# Altium schematic symbol library Composants_Projet_2409.SchLib: 17 symbols
Pins are listed as number, name and electrical type; pins without a type are passive.

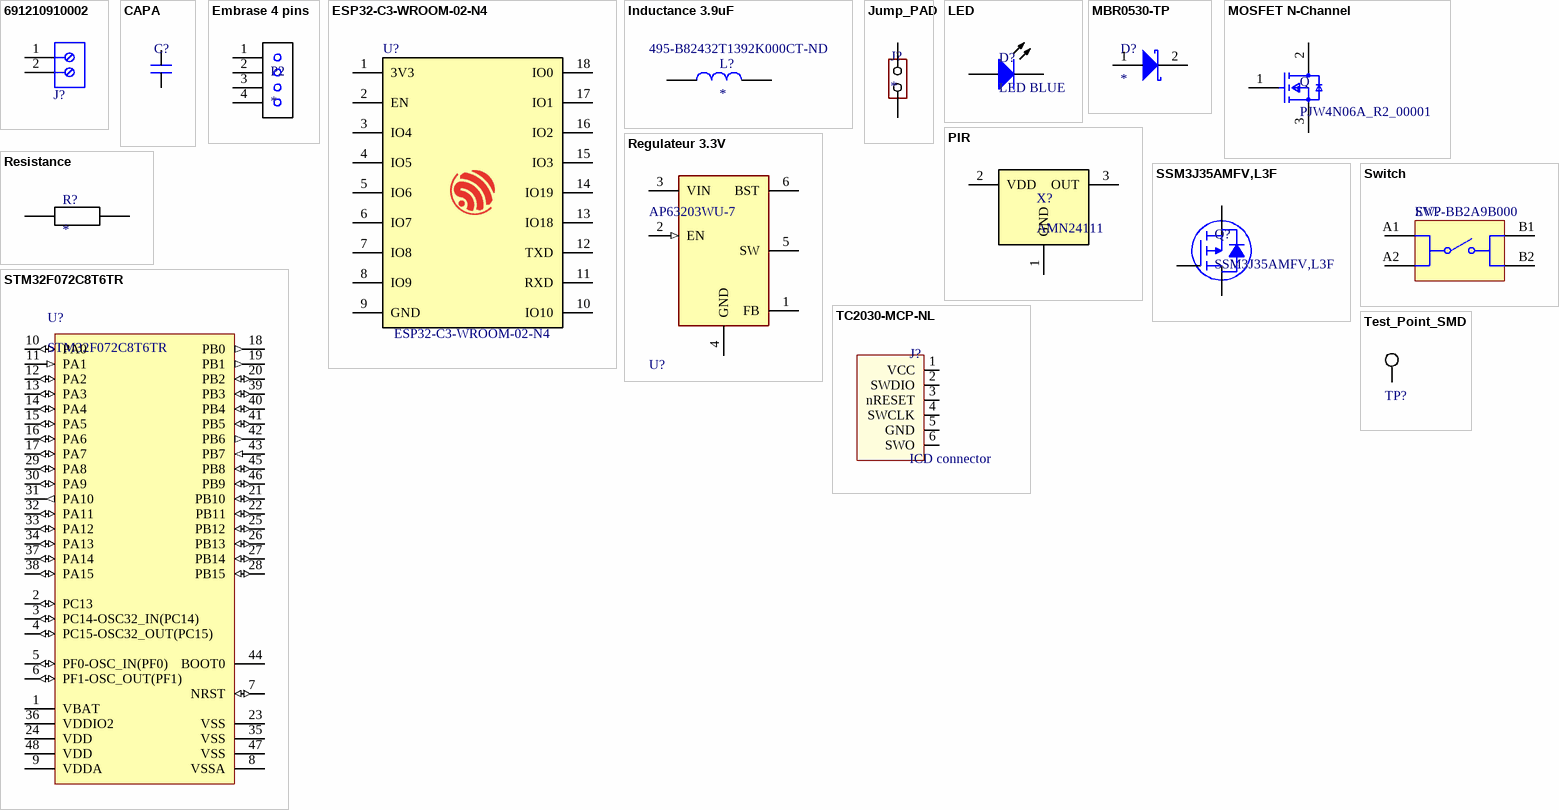
[diagram p0: symbols 691210910002 to Test_Point_SMD]

## 691210910002
designator J?  (value not drawn)
WR-TBL Series 2109 Horizontal Entry, THT, pitch 2.54mm, 2p; Manufacturer: Wurth Elektronik; Modularity: No; Rated Current: 6A; Working Voltage: 150V; ComponentLink1Description: Website Link; ComponentLink1URL: https://www.we-online.com/redexpert/article/691210910002?ad; ComponentLink2Description: Datasheet Link; ComponentLink2URL: https://www.we-online.com/redexpert/spec/691210910002?ad; Manufacturer Part Number: 691210910002; Category: Terminal Blocks; Match Code: WR-TBL; Mount: Through Hole; Operating Temperature Max: 105°C; Operating Temperature Min: -40°C; Packaging: Box; Application: Rising Cage Clamp; Number of Pins: 2; Number of Rows: 1; Orientation: Horizontal; Pitch: 2.54mm
footprint 691210910002
pins: 1, 2

## CAPA
designator C?
Tension: *
footprint WCAP-CSGP_0805_L2W1.25H0.8_Wave (Ceramic Capacitors, body 2x1.25mm)
pins: 1 +, 2 -

## Embrase 4 pins
designator P2
pins: 1 VCC, 2 VCC, 3 VCC, 4 VCC

## ESP32-C3-WROOM-02-N4
designator U?
WiFi Modules (802.11) (Engineering Samples) SMD module, ESP32-C3, 4MB SPI flash, PCB antenna, -40 C +85 C; Manufacturer_Name: Espressif Systems; Geometry.Height: 3.35mm; Manufacturer_Part_Number: ESP32-C3-WROOM-02-N4; Mouser Part Number: 356-ESP32C3WROOM02N4; Mouser Price/Stock: https://www.mouser.co.uk/ProductDetail/Espressif-Systems/ESP32-C3-WROOM-02-N4?qs=stqOd1AaK7%2FqjTZKEOgfUg%3D%3D; Arrow Part Number: *; Arrow Price/Stock: *; Datasheet Link: https://www.mouser.ch/datasheet/2/891/Espressif_ESP32_C3_WROOM_02-2006871.pdf
footprint ESP32C3WROOM02N4
pins: 1 3V3, 2 EN, 3 IO4, 4 IO5, 5 IO6, 6 IO7, 7 IO8, 8 IO9, 9 GND, 10 IO10, 11 RXD, 12 TXD, 13 IO18, 14 IO19, 15 IO3, 16 IO2, 17 IO1, 18 IO0

## Inductance 3.9uF
designator L?  Supplier Part Number 1: 495-B82432T1392K000CT-ND
FIXED IND 3.9UH 850MA 200 MOHM; MF: EPCOS; MP: B82432T1392K000; SnapEDA_Link: https://www.snapeda.com/parts/B82432T1392K000/EPCOS/view-part/?ref=snap; Package: 1812 EPCOS (TDK); Value: *; Check_prices: https://www.snapeda.com/parts/B82432T1392K000/EPCOS/view-part/?ref=eda; Supplier 1: Digi-Key
footprint Inductance 3.9uF
pins: 1, 2

## Jump_PAD
designator J?
jump pad smd
footprint Jump_PAD
pins: 1, 2

## LED
designator D?, comment LED BLUE
footprint LED_SMD_B_AND_R
pins: 1 K, 2 A

## MBR0530-TP
designator D?
footprint ONSC-SOD-123-2-425-04_V (SOD, 2-Leads, Body 2.69x1.6mm)
pins: 1 A, 2 C

## MOSFET N-Channel
designator Q, comment PJW4N06A_R2_00001
pins: 1 G, 2 D, 3 S

## PIR
designator X?, comment AMN24111
Capteur PIR (infrarouge passif) 394po (10m) 32,8pi Lentille longue distance, noire Cylindre
pins: 1 GND, 2 VDD, 3 OUT

## Regulateur 3.3V
designator U?, comment AP63203WU-7
IC REG BUCK 3.3V 2A TSOT26; Manufacturer: Diodes Inc.; Output Type: Fixed; Min Supply Voltage: 3.8V; Number Of Outputs: 1; Max Junction Temp: +160°C; Nominal Supply Current: 22uA; Standoff Height: 0.01mm; Switching Frequency: 1.1MHz; Max Supply Voltage: 32V; ComponentLink2Description: Datasheet; Device Class L1: Integrated Circuits (ICs); Temperature: to +160°C; Device Class L3: Voltage Regulators - Switching; RoHS: TRUE; Octopart: https://octopart.com/ap63203wu-7-diodes+inc.-98099550; Output Voltage: 3.3V; Lead Free: Yes; ComponentLink2URL: https://www.diodes.com/assets/Datasheets/AP63200-AP63201-AP63203-AP63205.pdf; Digikey Description: IC REG BUCK 3.3V 2A TSOT26; Footprint Url: https://www.diodes.com/assets/Package-Files/TSOT26.pdf; Ambient Temperature Range High: +85°C; Height: 1mm; Automotive: No; Temperature Range High: +160°C; Switching Topology: Buck; Output Current: 2A; Package: TSOT26; Category: IC; Mouser Description: AP63203 Series 3.3 V 2 A SMT Fixed Low IQ Synchronous Buck - TSOT-26; Device Class L2: Power Management ICs; Ambient Temperature Range Low: -40°C; Manufacturer Part Number: AP63203WU-7
footprint FP-TSOT26-MFG
pins: 1 FB, 2 EN (in), 3 VIN (power), 4 GND (power), 5 SW (power), 6 BST

## Resistance
designator R?
footprint WRIS-PSMB_0805_L2W1.25H0.35 (Metal Plate Resistor, SMT, body size 2x1.25mm)
pins: 1, 2

## SSM3J35AMFV,L3F
designator Q?
Canal P 20 V 250mA (Ta) 150mW (Ta) Montage en surface VESM
footprint SSM3J35AMFV (SOT23, 3-Leads, Body 1,20x1,20mm, Pitch 0,40mm, IPC Medium Density)
pins: 1 G, 2 S, 3 D

## STM32F072C8T6TR
designator U?
ARM Cortex-M0 32-bit MCU, 64 KB Flash, 16 KB Internal RAM, 37 I/Os, 48-Pin LQFP, -40 to 85 degC, Tray; Manufacturer: STMicroelectronics; Operating Frequency(F) (Processor speed) (MHz): 48; FLASH Size (Prog) (kB): 64; I/Os (High Current): 37; D/A Converter: 1; Internal RAM Size (kB): 16; Supply Voltage(Vcc) min (V): 2; Package Reference: LQFP48; DatasheetVersion: Rev. 5; Core: ARM Cortex-M0; ComponentLink1Description: Manufacturer URL; ComponentLink1URL: http://www.st.com/; Packing: Tray; Mounting Technology: Surface Mount; Package Description: 48-Pin Low Profile Quad Flat Package, Body 7 x 7 mm, Pitch 0.5 mm; ComponentLink2URL: http://www.st.com/st-web-ui/static/active/en/resource/technical/document/datasheet/DM00090510.pdf; ComponentLink2Description: Datasheet; PartNumber: STM32F072C8T6
footprint LQFP48-7x7mm
pins: 1 VBAT (power) "Backup power supply", 2 PC13 (io) "PC13/WKUP2,RTC_TAMP1,RTC_TS,RTC_OUT", 3 PC14-OSC32_IN(PC14) (io) "PC14-OSC32_IN(PC14)/OSC32_IN", 4 PC15-OSC32_OUT(PC15) (io) "PC15-OSC32_OUT(PC15)/OSC_OUT", 5 PF0-OSC_IN(PF0) (io) "PF0-OSC_IN(PF0)/CRS_SYNC/OSC_IN", 6 PF1-OSC_OUT(PF1) (io) "PF1-OSC_OUT(PF1)/OSC_OUT", 7 NRST (io) "Device reset input/internal reset output(active low)", 8 VSSA (power) "Analog ground", 9 VDDA (power) "Analog power supply", 10 PA0 (io) "PA0/USART2_CTS,TIM2_CH1_ETR,COMP1_OUT,TSC_G1_IO1,USART4_TX/RTC_TAMP2,WKUP1,ADC_IN0,COMP1_INM6", 11 PA1 (in) "PA1/USART2_RTS,TIM2_CH2,TIM15_CH1N,TSC_G1_IO2,USART4_RX,EVENTOUT/ADC_IN1,COMP1_INP", 12 PA2 (io) "PA2/USART2_TX,COMP2_OUT,TIM2_CH3,TIM15_CH1,TSC_G1_IO3/ADC_IN2,COMP2_INM6,WKUP4", 13 PA3 (io) "PA3/USART2_RX,TIM2_CH4,TIM15_CH2,TSC_G1_IO4/ADC_IN3,COMP2_INP", 14 PA4 (io) "PA4/SPI1_NSS,I2S1_WS,TIM14_CH1,TSC_G2_IO1,USART2_CK/COMP1_INM4,COMP2_INM4,ADC_IN4,DAC_OUT1", 15 PA5 (io) "PA5/SPI1_SCK,I2S1_CK,CEC,TIM2_CH1_ETR,TSC_G2_IO2/COMP1_INM5,COMP2_INM5,ADC_IN5,DAC_OUT2", 16 PA6 (io) "PA6/SPI1_MISO,I2S1_MCK,TIM3_CH1,TIM1_BKIN,TIM16_CH1,COMP1_OUT,TSC_G2_IO3,EVENTOUT,USART3_CTS/ADC_IN6", 17 PA7 (io) "PA7/SPI1_MOSI,I2S1_SD,TIM3_CH2,TIM14_CH1,TIM1_CH1N,TIM17_CH1,COMP2_OUT,TSC_G2_IO4,EVENTOUT/ADC_IN7", 18 PB0 (out) "PB0/TIM3_CH3,TIM1_CH2N,TSC_G3_IO2,EVENTOUT,USART3_CK/ADC_IN8", 19 PB1 (out) "PB1/TIM3_CH4,USART3_RTS,TIM14_CH1,TIM1_CH3N,TSC_G3_IO3/ADC_IN9", 20 PB2 (io) "PB2/TSC_G3_IO4", 21 PB10 (io) "PB10/SPI2_SCK,I2C2_SCL,USART3_TX,CEC,TSC_SYNC,TIM2_CH3", 22 PB11 (io) "PB11/USART3_RX,TIM2_CH4,EVENTOUT,TSC_G6_IO1,I2C2_SDA", 23 VSS (power) "Ground", 24 VDD (power) "Digital power supply", 25 PB12 (io) "PB12/TIM1_BKIN,TIM15_BKIN,SPI2_NSS,I2S2_WS,USART3_CK,TSC_G6_IO2,EVENTOUT", 26 PB13 (io) "PB13/SPI2_SCK,I2S2_CK,I2C2_SCL,USART3_CTS,TIM1_CH1N,TSC_G6_IO3", 27 PB14 (io) "PB14/SPI2_MISO,I2S2_MCK,I2C2_SDA,USART3_RTS,TIM1_CH2N,TIM15_CH1,TSC_G6_IO4", 28 PB15 (io) "PB15/SPI2_MOSI,I2S2_SD,TIM1_CH3N,TIM15_CH1N,TIM15_CH2/WKUP7,RTC_REFIN", 29 PA8 (io) "PA8/USART1_CK,TIM1_CH1,EVENTOUT,MCO,CRS_SYNC", 30 PA9 (io) "PA9/USART1_TX,TIM1_CH2,TIM15_BKIN,TSC_G4_IO1", 31 PA10 (out) "PA10/USART1_RX,TIM1_CH3,TIM17_BKIN,TSC_G4_IO2", 32 PA11 (io) "PA11/CAN_RX,USART1_CTS,TIM1_CH4,COMP1_OUT,TSC_G4_IO3,EVENTOUT/USB_DM", 33 PA12 (io) "PA12/CAN_TX,USART1_RTS,TIM1_ETR,COMP2_OUT,TSC_G4_IO4,EVENTOUT/USB_DP", 34 PA13 (io) "PA13/IR_OUT,SWDIO,USB_NOE", 35 VSS (power) "Ground", 36 VDDIO2 (power) "Digital power supply", 37 PA14 (io) "PA14/USART2_TX,SWCLK", 38 PA15 (io) "PA15/SPI1_NSS,I2S1_WS,USART2_RX,USART4_RTS,TIM2_CH1_ETR,EVENTOUT", 39 PB3 (io) "PB3/SPI1_SCK,I2S1_CK,TIM2_CH2,TSC_G5_IO1,EVENTOUT", 40 PB4 (io) "PB4/SPI1_MISO,I2S1_MCK,TIM17_BKIN,TIM3_CH1,TSC_G5_IO2,EVENTOUT", 41 PB5 (io) "PB5/SPI1_MOSI,I2S1_SD,I2C1_SMBA,TIM16_BKIN,TIM3_CH2/WKUP6", 42 PB6 (out) "PB6/I2C1_SCL,USART1_TX,TIM16_CH1N,TSC_G5_IO3", 43 PB7 (in) "PB7/I2C1_SDA,USART1_RX,USART4_CTS,TIM17_CH1N,TSC_G5_IO4", 44 BOOT0 "Boot memory selection", 45 PB8 (io) "PB8/I2C1_SCL,CEC,TIM16_CH1,TSC_SYNC,CAN_RX", 46 PB9 (io) "PB9/SPI2_NSS,I2S2_WS,I2C1_SDA,IR_OUT,TIM17_CH1,EVENTOUT,CAN_TX", 47 VSS (power) "Ground", 48 VDD (power) "Digital power supply"

## Switch
designator SW?, comment EVP-BB2A9B000
SWITCH TACTILE SPST-NO 0.02A 15V; NexarPartId: 22861789; Switch Function: Off-Mom; Contact Resistance: 100mΩ; Switch Travel: 250µm; Voltage Rating: 12V; Mechanical Life: 1Mcycles; Current Rating: 50mA; Actuator Material: Liquid Crystal Polymer, Polymer; Illumination Type: Illuminated, Non-Illuminated; Throw Configuration: SPST; Actuator Length: 900µm; Max Operating Temperature: 85°C; Mount: Surface Mount; Contact Material: Stainless Steel, Steel; Width: 6.2mm; Termination: Gull Wing; Min Operating Temperature: -40°C; Insulation Resistance: 100MΩ; Contact Plating: Silver; Length: 6.2mm; RoHS: Compliant; Contact Current Rating: 50mA; Packaging: Tape and Reel; REACH SVHC: No SVHC; Color: Black; Diameter: 3.5mm; Height: 4.3mm; Lead Free: Lead Free
footprint WS-TASV_L6W6H4.3_4301x20438x6 (SMD Tact Switch, body 6x6mm)
pins: A1, A2, B1, B2

## TC2030-MCP-NL
designator J?, comment ICD connector  (no BOM)
Conector par STlinj
footprint TC2030-MCP (Conector ICD en placa)
pins: 1 VCC, 2 SWDIO, 3  nRESET, 4 SWCLK, 5 GND, 6 SWO

## Test_Point_SMD
designator TP?  (value not drawn)
footprint 5019
pins: 1